# Altium schematic symbol library LED,Tri-Color,RGB,Thru,CC.Schlib: 1 symbol
Pins are listed as number, name and electrical type; pins without a type are passive.

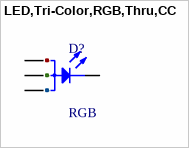
[diagram p0: symbol LED,Tri-Color,RGB,Thru,CC]

## LED,Tri-Color,RGB,Thru,CC
designator D?, comment RGB
Green, Red 570nm Green, 630nm Red LED Indication - Discrete 2.1V Green, 1.95V Red 1206 (3216 Metric)
pins: 1 B, 2 R, 3 K, 4 G